# Altium footprint library SOD123.PcbLib: 1 footprints
Each footprint in its own frame and in the unit in brackets; x right, y up, seen from the top. Pads: shape width x height; smd on the part's side, far side on the other; paste and mask are expansions set on the pad; w line width, h text height; cw(c..) or ccw(c..) is an arc to the next point about the centre after c.
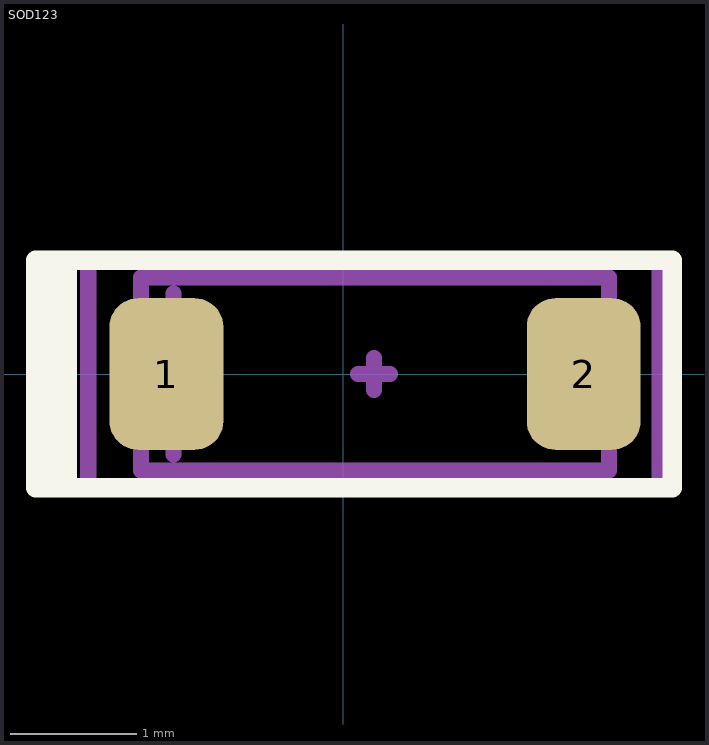
[diagram p0: the footprint, top view; thin cyan lines are the x and y axes]

## SOD123 [mm]
pads (2):
  rrect50% 0.9x1.2 smd: 1(-1.4,0) 2(1.9,0)
Top Overlay:
  lines w0.152: -2.3,-0.889 -2.3,0.889 ; -2.182,-0.9 -2.182,0.9 ; -2.432,-0.9 -2.432,0.9 2.6,0.9 2.6,-0.9 -2.432,-0.9
Top Assembly:
  lines w0.127: -1.343,-0.635 -1.343,0.635 ; -1.6,-0.762 -1.6,0.203 -1.6,0.762 2.1,0.762 2.1,-0.762 -1.6,-0.762
Top Courtyard:
  lines w0.127: 0.114,0 0.368,0 ; 0.241,-0.127 0.241,0.127 ; -2.018,-0.889 -2.018,0.889 2.5,0.889 2.5,-0.889 -2.018,-0.889
3D body "CircuitWorks-SOD123.step": height 1.27, standoff 0, extent -1.6,-0.8 2.1,0.8